# EAGLE library part HEF4104BT,653 (library Hocki_Library)
Voltage Level Translator Unidirectional 1 Circuit 4 Channel 16-SO DigiKey <https://www.digikey.com/en/products/detail/nexperia-usa-inc/HEF4104BT-653/1156435>
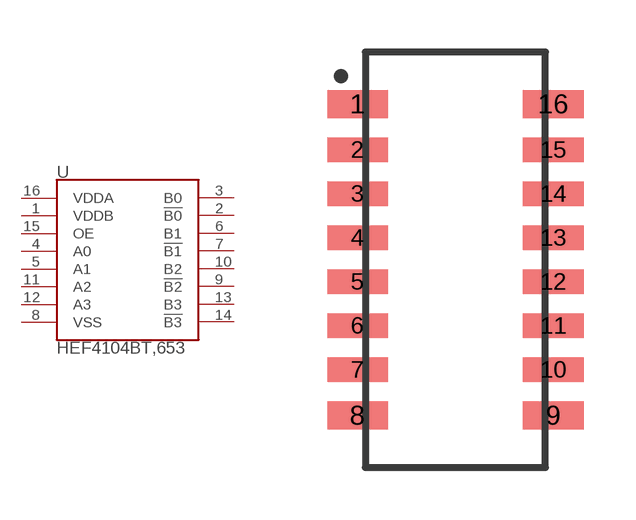
[diagram p13: symbol with the pads of 16-SOIC; footprint 16-SOIC]

Designator prefix U

## HEF4104BT,653 (DKPN: 1727-6417-1-ND)  [16-SOIC]
1  VDDB  pas
2  !B0  pas
3  B0  pas
4  A0  pas
5  A1  pas
6  B1  pas
7  !B1  pas
8  VSS  pas
9  !B2  pas
10  B2  pas
11  A2  pas
12  A3  pas
13  B3  pas
14  !B3  pas
15  OE  pas
16  VDDA  pas

## Footprint 16-SOIC (pad centres in mm)
smd 1.75 x 0.8: 1 -2.825,4.495; 8 -2.825,-4.495; 9 2.825,-4.495; 16 2.825,4.495
smd 1.75 x 0.7: 2 -2.825,3.175; 3 -2.825,1.905; 4 -2.825,0.635; 5 -2.825,-0.635; 6 -2.825,-1.905; 7 -2.825,-3.175; 10 2.825,-3.175; 11 2.825,-1.905; 12 2.825,-0.635; 13 2.825,0.635; 14 2.825,1.905; 15 2.825,3.175